# Altium schematic symbol library SelfDrivingCar_Project.SCHLIB: 54 symbols (part 2 of 2)
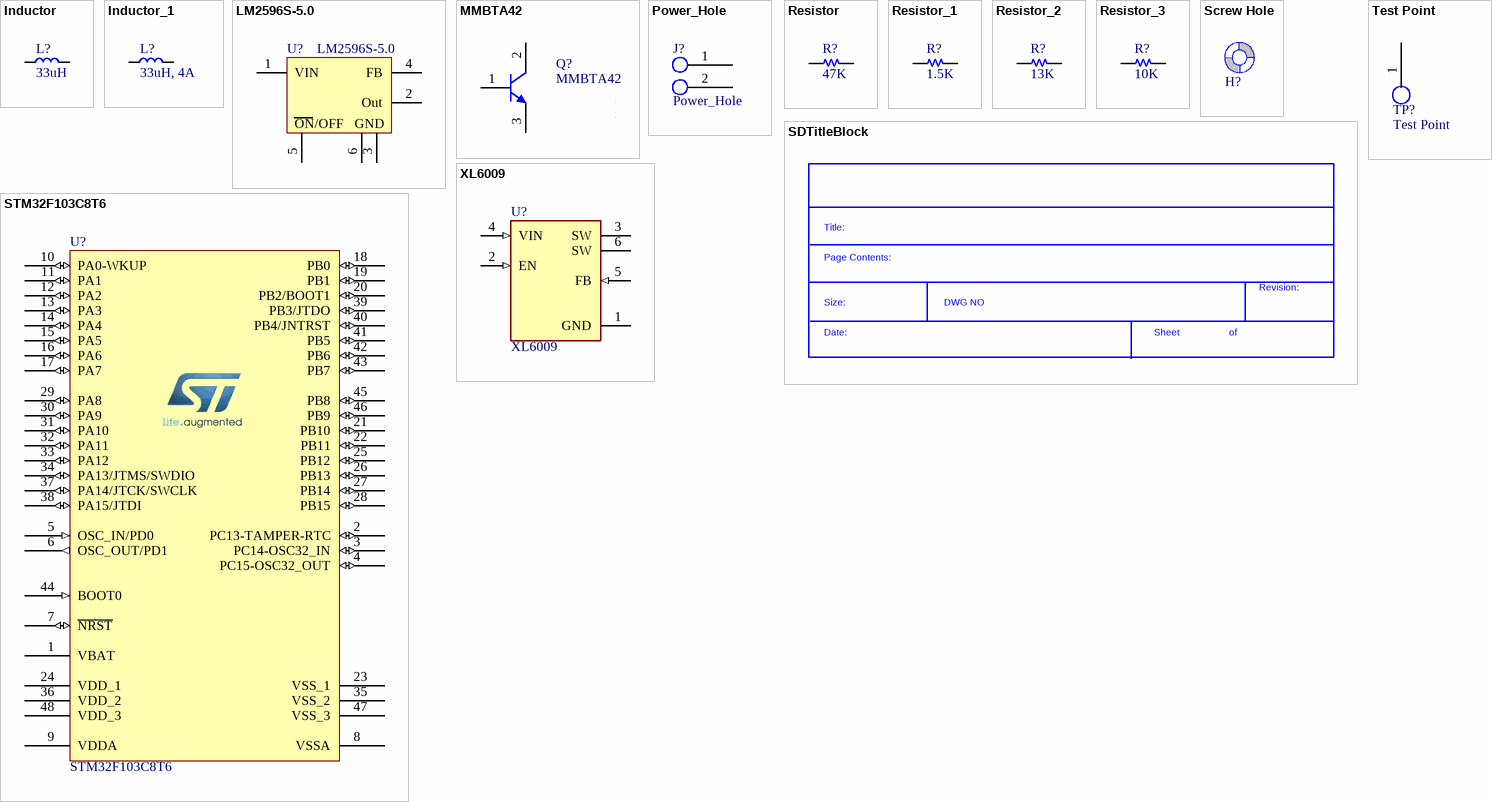
[diagram p2: symbols Inductor to XL6009]

## Resistor_2
designator R?, comment 13K
Resistor; ComponentLink1Description: URL; ComponentLink1URL: https://www.thegioiic.com/dien-tro-13-kohm-0603-1-
footprint R 1W (Through hole resitor, axial 600mils, 1W)
footprint R 5W
footprint R 0402 (Chip Resistor, 2-Leads, Body 1.0x0.5mm, IPC Medium Density)
footprint R 0603 (Chip Resistor, 2-Leads, Body 1.6x0.8mm, IPC Medium Density)
footprint R 0805 (Chip Resistor, 2-Leads, Body 2.0x1.3mm, IPC Medium Density)
footprint R 1206 (Chip Resistor, 2-Leads, Body 3.1x1.6mm, IPC Medium Density)
footprint R 1210 (Chip Resistor, 2-Leads, Body 3.2x2.5mm, IPC Medium Density)
footprint R 1812 (Chip Resistor, 2-Leads, Body 4.5x3.2mm, IPC Medium Density)
footprint R 2010 (Chip Resistor, 2-Leads, Body 5.0x2.5mm, IPC Medium Density)
footprint R 2512 (Chip Resistor, 2-Leads, Body 6.4x3.2mm, IPC Medium Density)
footprint R 1/2W/630 (Through hole resitor, axial 600mils, 1W)
footprint R 1/4W/300 (Through hole resitor, axial 300mils, 1/4W)
footprint R 1W/500 (Through hole resitor, axial 500mils, 1W)
footprint RR 0402 (Chip Capacitor, 2-Leads, Body 1.0x0.5mm, IPC Medium Density)
footprint RES_1W_V (PANASONIC)
footprint R 0402 (1005) (Chip Resistor, 2-Leads, Body 1.0x0.5mm, IPC Medium Density)
pins: 1, 2

## Resistor_3
designator R?, comment 10K
Resistor; ComponentLink1Description: URL; ComponentLink1URL: https://www.thegioiic.com/dien-tro-10-kohm-0603-1-
footprint R 1W (Through hole resitor, axial 600mils, 1W)
footprint R 5W
footprint R 0402 (Chip Resistor, 2-Leads, Body 1.0x0.5mm, IPC Medium Density)
footprint R 0603 (Chip Resistor, 2-Leads, Body 1.6x0.8mm, IPC Medium Density)
footprint R 0805 (Chip Resistor, 2-Leads, Body 2.0x1.3mm, IPC Medium Density)
footprint R 1206 (Chip Resistor, 2-Leads, Body 3.1x1.6mm, IPC Medium Density)
footprint R 1210 (Chip Resistor, 2-Leads, Body 3.2x2.5mm, IPC Medium Density)
footprint R 1812 (Chip Resistor, 2-Leads, Body 4.5x3.2mm, IPC Medium Density)
footprint R 2010 (Chip Resistor, 2-Leads, Body 5.0x2.5mm, IPC Medium Density)
footprint R 2512 (Chip Resistor, 2-Leads, Body 6.4x3.2mm, IPC Medium Density)
footprint R 1/2W/630 (Through hole resitor, axial 600mils, 1W)
footprint R 1/4W/300 (Through hole resitor, axial 300mils, 1/4W)
footprint R 1W/500 (Through hole resitor, axial 500mils, 1W)
footprint RR 0402 (Chip Capacitor, 2-Leads, Body 1.0x0.5mm, IPC Medium Density)
footprint RES_1W_V (PANASONIC)
footprint R 0402 (1005) (Chip Resistor, 2-Leads, Body 1.0x0.5mm, IPC Medium Density)
pins: 1, 2

## Screw Hole
designator H?  (value not drawn)  (no BOM)
TYPE: NO-BOM; UNIT PRICE: 0
footprint SCREW/3.2/7.0/M
footprint SCREW/3.0/6.0
footprint SCREW/2.8/5.0
pins: 1 Screw

## SDTitleBlock
designator *??  (value not drawn)  (graphical)
text: Title:; Page Contents:; Revision:; Size:; DWG NO; Date:; Sheet; of

## STM32F103C8T6
designator U?
ARM Microcontrollers - MCU 32BIT Cortex M3 64KB 20KB RAM 2X12 ADC; Manufacturer: STM; Manufacture SN: STM32F103C8T6TR; Pad count: 48; ComponentLink1Description: Datasheet; Part Number: STM32F103C8T6; Value: STM32F103C8T6; ComponentLink1URL: https://www.mouser.com/datasheet/2/389/stm32f103c8-1851025.pdf; Footprint name: LQFP48; ComponentLink2Description: Supplier 1 URL; ComponentLink2URL: https://www.mouser.com/ProductDetail/STMicroelectronics/STM32F103C8T6?qs=bhCVus9SdFtq6kqxsU5%2FDA%3D%3D; ComponentLink3Description: Supplier 2 URL; ComponentLink3URL: 497-17666-2-ND; ComponentLink4Description: Supplier 3 URL; ComponentLink4URL: https://www.thegioiic.com/stm32f103c8t6-32-bit-arm-cortex-m3-microcontroller-72mhz-64kb-flash-48-lqfp; Supplier 1 Name: Mouser; Supplier 1 SN: 511-STM32F103C8T6; Supplier 1 URL: https://www.mouser.com/ProductDetail/STMicroelectronics/STM32F103C8T6?qs=bhCVus9SdFtq6kqxsU5%2FDA%3D%3D; Supplier 2 Name: Digi-Key; Supplier 2 SN: 497-17666-2-ND; Supplier 2 URL: https://www.digikey.com/en/products/detail/stmicroelectronics/stm32f103c8t6tr/2122442; Supplier 3 Name: thegioiic; Supplier 3 SN: STM32F103C8T6; Supplier 3 URL: https://www.thegioiic.com/stm32f103c8t6-32-bit-arm-cortex-m3-microcontroller-72mhz-64kb-flash-48-lqfp
footprint STM32F103C8T6 (TSQFP, 48-Leads, Body 7.00x7.00mm, Pitch 0.50mm, IPC Medium Density)
pins: 1 VBAT (power), 2 PC13-TAMPER-RTC (io), 3 PC14-OSC32_IN (io), 4 PC15-OSC32_OUT (io), 5 OSC_IN/PD0 (in), 6 OSC_OUT/PD1 (out), 7 ~{NRST} (io), 8 VSSA (power), 9 VDDA (power), 10 PA0-WKUP (io), 11 PA1 (io), 12 PA2 (io), 13 PA3 (io), 14 PA4 (io), 15 PA5 (io), 16 PA6 (io), 17 PA7 (io), 18 PB0 (io), 19 PB1 (io), 20 PB2/BOOT1 (io), 21 PB10 (io), 22 PB11 (io), 23 VSS_1 (power), 24 VDD_1 (power), 25 PB12 (io), 26 PB13 (io), 27 PB14 (io), 28 PB15 (io), 29 PA8 (io), 30 PA9 (io), 31 PA10 (io), 32 PA11 (io), 33 PA12 (io), 34 PA13/JTMS/SWDIO (io), 35 VSS_2 (power), 36 VDD_2 (power), 37 PA14/JTCK/SWCLK (io), 38 PA15/JTDI (io), 39 PB3/JTDO (io), 40 PB4/JNTRST (io), 41 PB5 (io), 42 PB6 (io), 43 PB7 (io), 44 BOOT0 (in), 45 PB8 (io), 46 PB9 (io), 47 VSS_3 (power), 48 VDD_3 (power)

## Test Point
designator TP?
footprint TP_1_5mm_SMD
pins: 1

## XL6009
designator U?
IC switching boost voltage; ComponentLink1Description: URL; ComponentLink1URL: https://www.thegioiic.com/xl6009-ic-dieu-chinh-tang-ap-5a-to-263-5
footprint XL6009
pins: 1 GND (power), 2 EN (in), 3 SW, 4 VIN (in), 5 FB (in), 6 SW